# EAGLE library part SIM28 (library dawidkulpa_dev)
Simcomm GPS module
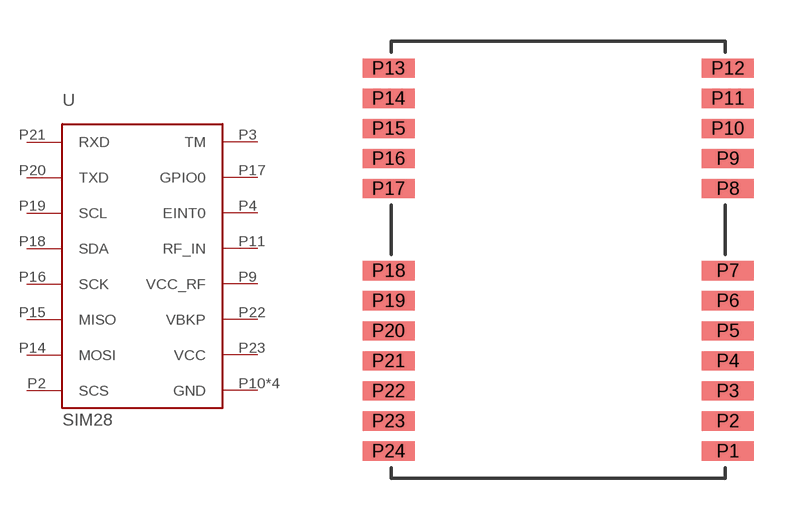
[diagram p8: symbol with the pads of SIM28; footprint SIM28]

Designator prefix -

## SIM28  [SIM28]
P2  SCS
P3  TM
P4  EINT0
P9  VCC_RF
P10  GND
P11  RF_IN
P12  GND
P13  GND
P14  MOSI
P15  MISO
P16  SCK
P17  GPIO0
P18  SDA
P19  SCL
P20  TXD
P21  RXD
P22  VBKP
P23  VCC
P24  GND

## Footprint SIM28 (pad centres in mm)
smd 1.9 x 0.7: P1 6.2,-7; P2 6.2,-5.9; P3 6.2,-4.8; P4 6.2,-3.7; P5 6.2,-2.6; P6 6.2,-1.5; P7 6.2,-0.4; P8 6.2,2.6; P9 6.2,3.7; P10 6.2,4.8; P11 6.2,5.9; P12 6.2,7; P13 -6.2,7; P14 -6.2,5.9; P15 -6.2,4.8; P16 -6.2,3.7; P17 -6.2,2.6; P18 -6.2,-0.4; P19 -6.2,-1.5; P20 -6.2,-2.6; P21 -6.2,-3.7; P22 -6.2,-4.8; P23 -6.2,-5.9; P24 -6.2,-7